# Altium schematic symbol library Schlib1_dn.SchLib: 1 symbol
Pins are listed as number, name and electrical type; pins without a type are passive.

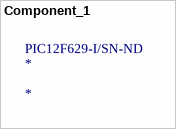
[diagram p0: symbol Component_1]

## Component_1
designator *  Supplier Part Number 1: PIC12F629-I/SN-ND
Supplier 1: Digi-Key